# EAGLE library part BMD-200 (library firefly)
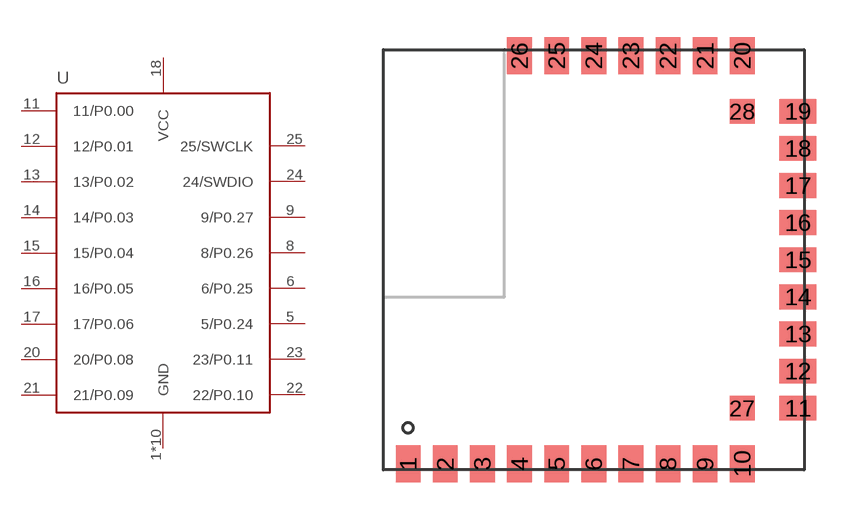
[diagram p34: symbol with the pads of BMD-200; footprint BMD-200]

Designator prefix -

## BMD-200  [BMD-200]
1  GND
2  GND
3  GND
4  GND
5  5/P0.24
6  6/P0.25
7  GND
8  8/P0.26
9  9/P0.27
10  GND
11  11/P0.00
12  12/P0.01
13  13/P0.02
14  14/P0.03
15  15/P0.04
16  16/P0.05
17  17/P0.06
18  VCC
19  GND
20  20/P0.08
21  21/P0.09
22  22/P0.10
23  23/P0.11
24  24/SWDIO
25  25/SWCLK
26  GND
27  GND
28  GND

## Footprint BMD-200 (pad centres in mm)
smd 1 x 1.5: 1 -7.5,-8.25; 2 -6,-8.25; 3 -4.5,-8.25; 4 -3,-8.25; 5 -1.5,-8.25; 6 0,-8.25; 7 1.5,-8.25; 8 3,-8.25; 9 4.5,-8.25; 10 6,-8.25; 20 6,8.25; 21 4.5,8.25; 22 3,8.25; 23 1.5,8.25; 24 0,8.25; 25 -1.5,8.25; 26 -3,8.25
smd 1.5 x 1: 11 8.25,-6; 12 8.25,-4.5; 13 8.25,-3; 14 8.25,-1.5; 15 8.25,0; 16 8.25,1.5; 17 8.25,3; 18 8.25,4.5; 19 8.25,6
smd 1 x 1: 27 6,-6; 28 6,6